# EAGLE library part TMP117AIDRVR (library TMP117AIDRVR)
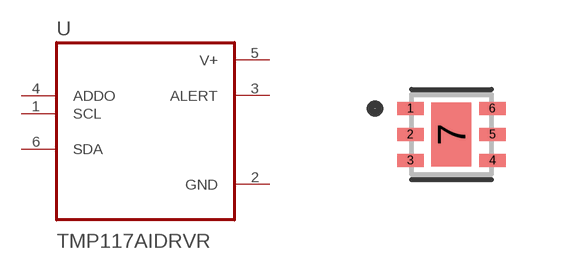
[diagram p0: symbol with the pads of SON65P200X200X80-7N; footprint SON65P200X200X80-7N]

Designator prefix U

## TMP117AIDRVR (Description: 0.1C accurate digital temperature sensor with integrated NV memory 6-WSON -55 to 150; Digi-Key_Part_Number: 296-51834-1-ND; MF: Texas Instruments; MP: TMP117AIDRVR; Package: WSON-6 Texas Instruments; Purchase-URL: https://pricing.snapeda.com/search/part/TMP117AIDRVR/?ref=eda)  [SON65P200X200X80-7N]
1  SCL  in
2  GND  pwr
3  ALERT  out
4  ADDO  in
5  V+  pwr
6  SDA

## Footprint SON65P200X200X80-7N (pad centres in mm)
smd 0.66 x 0.32: 1 -1.025,0.65; 2 -1.025,0; 3 -1.025,-0.65; 4 1.025,-0.65; 5 1.025,0; 6 1.025,0.65
smd 1 x 1.6: 7 0,0